# EAGLE library part BMP388 (library BMP388)
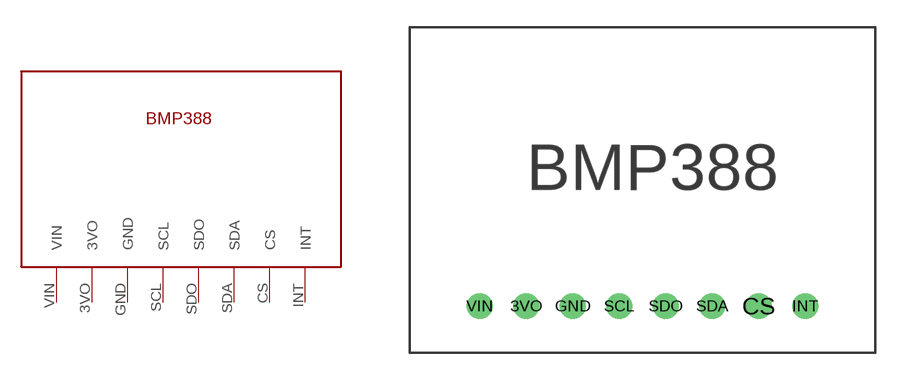
[diagram p0: symbol with the pads of BMP388; footprint BMP388]

Designator prefix -

## BMP388  [BMP388]
3VO  3VO
CS  CS
GND  GND
INT  INT
SCL  SCL
SDA  SDA
SDO  SDO
VIN  VIN

## Footprint BMP388 (pad centres in mm)
drill 0.9: 3VO 6.35,2.54; CS 19.05,2.54; GND 8.89,2.54; INT 21.59,2.54; SCL 11.43,2.54; SDA 16.51,2.54; SDO 13.97,2.54; VIN 3.81,2.54